# Altium footprint library CN_SAMTEC_SSM-105-L-DV.PcbLib: 1 footprints
Each footprint in its own frame and in the unit in brackets; x right, y up, seen from the top. Pads: shape width x height; smd on the part's side, far side on the other; paste and mask are expansions set on the pad; w line width, h text height; cw(c..) or ccw(c..) is an arc to the next point about the centre after c.
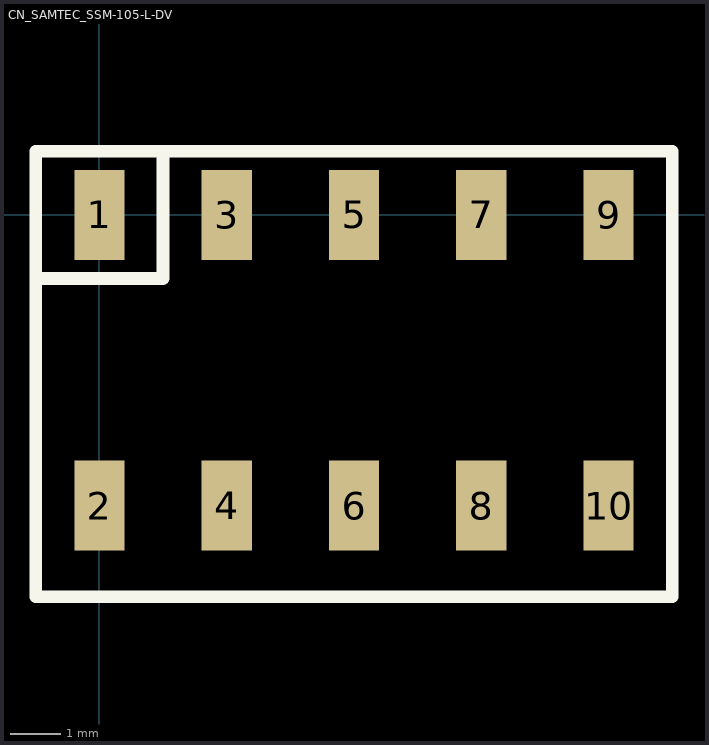
[diagram p0: the footprint, top view; thin cyan lines are the x and y axes]

## CN_SAMTEC_SSM-105-L-DV [mm]
pads (10):
  rect 1x1.8 smd: 1(0,0) 2(0,-5.8) 3(2.54,0) 4(2.54,-5.8) 5(5.08,0) 6(5.08,-5.8) 7(7.62,0) 8(7.62,-5.8) 9(10.16,0) 10(10.16,-5.8)
Top Overlay:
  lines w0.254: -1.27,-1.27 1.27,-1.27 1.27,1.27 ; -1.27,-7.62 11.43,-7.62 11.43,1.27 -1.27,1.27 -1.27,-7.62
3D body: height 8.64, standoff -0.05, extent -1.25,-6.432 11.45,0.6